# Altium footprint library UP20-C-F-G-FL-1-P12-TR(1).PcbLib: 1 footprints
Each footprint in its own frame and in the unit in brackets; x right, y up, seen from the top. Pads: shape width x height; smd on the part's side, far side on the other; paste and mask are expansions set on the pad; w line width, h text height; cw(c..) or ccw(c..) is an arc to the next point about the centre after c.
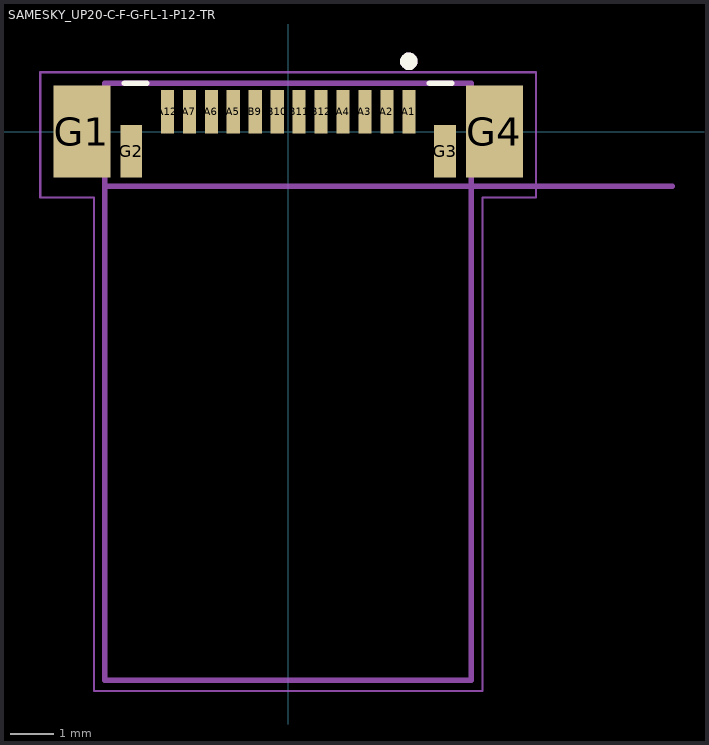
[diagram p0: the footprint, top view; thin cyan lines are the x and y axes]

## SAMESKY_UP20-C-F-G-FL-1-P12-TR [mm]
pads (16):
  rect 0.3x1 smd: A1(2.75,0.45) A2(2.25,0.45) A3(1.75,0.45) A4(1.25,0.45) A5(-1.25,0.45) A6(-1.75,0.45) A7(-2.25,0.45) A12(-2.75,0.45) B9(-0.75,0.45) B10(-0.25,0.45) B11(0.25,0.45) B12(0.75,0.45)
  rect 1.3x2.1 smd: G1(-4.7,0) G4(4.7,0)
  rect 0.5x1.2 smd: G2(-3.575,-0.45) G3(3.575,-0.45)
F.SilkS:
  circle w0.2: c2.75,1.6 r0.1
  lines w0.127: -3.73,1.1 -3.22,1.1 ; 3.22,1.1 3.73,1.1
F.Fab:
  circle w0.2: c2.75,1.6 r0.1
  lines w0.127: 8.75,-1.25 -4.175,-1.25 ; -4.175,-1.25 -4.175,-12.5 4.175,-12.5 4.175,1.1 -4.175,1.1 -4.175,-1.25
  text "PCB EDGE" at 4.799,-1.228 h0.8
F.CrtYd:
  lines w0.05: -5.65,-1.5 -4.425,-1.5 -4.425,-12.75 4.425,-12.75 4.425,-1.5 5.65,-1.5 5.65,1.35 -5.65,1.35 -5.65,-1.5